# Altium footprint library SEC_3002_DZ&HL.PcbLib: 65 footprints (part 2 of 5)
Each footprint in its own frame and in the unit in brackets; x right, y up, seen from the top. Pads: shape width x height; smd on the part's side, far side on the other; paste and mask are expansions set on the pad; w line width, h text height; cw(c..) or ccw(c..) is an arc to the next point about the centre after c.
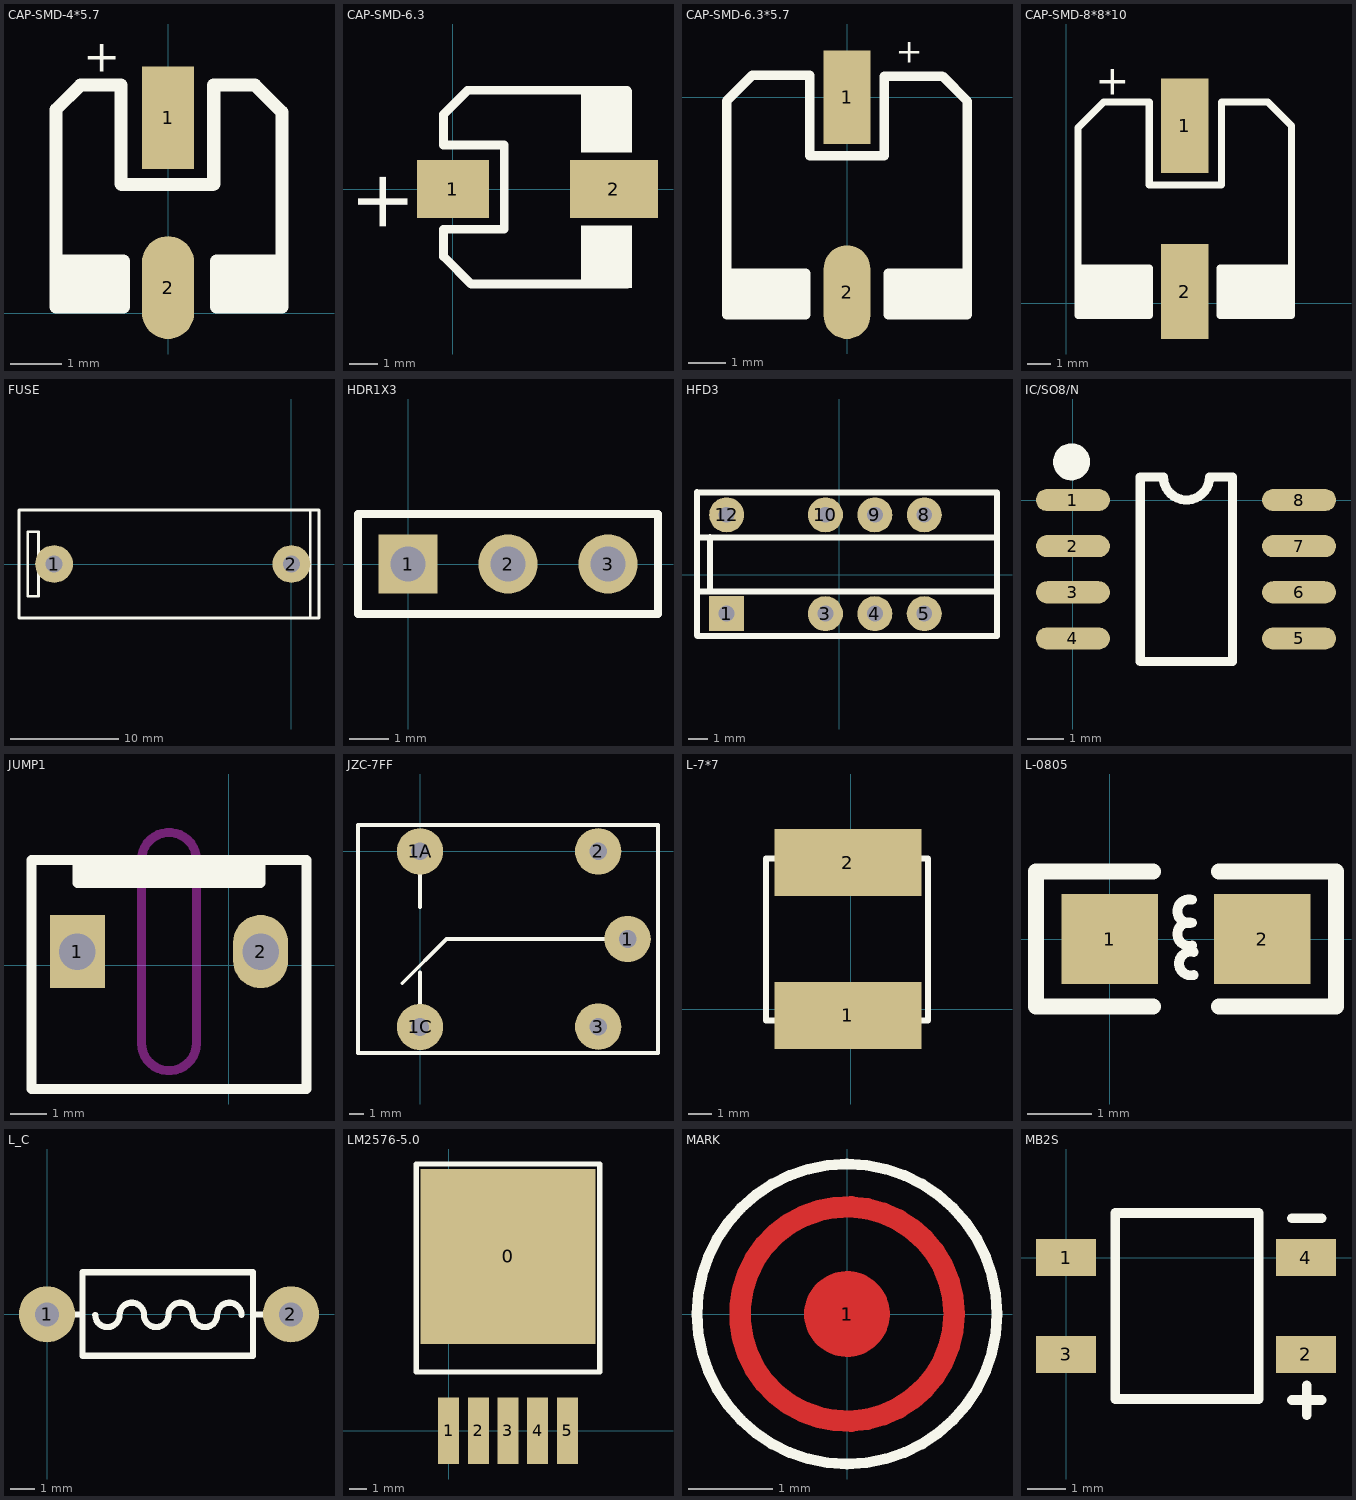
[diagram p1: the footprints below, top view; thin cyan lines are the x and y axes]

## CAP-SMD-4*5.7 [mm] "贴"
height 1.35
pads (2):
  rect 1.016x2 smd: 1(0,3.802)
  oval 1.016x2 smd: 2(0,0.5)
Top Overlay:
  rectangle: -2.178,0.134 -0.87,1.023
  rectangle: 0.945,0.127 2.216,1.016
  lines w0.254: -2.178,0.127 -2.178,3.962 -1.703,4.437 -0.914,4.437 -0.914,2.516 -0.9,2.502 0.878,2.502 0.889,2.513 0.889,4.437 1.69,4.437 2.216,3.911 2.216,0.127 ; -2.178,1.016 -0.902,1.016 ; -2.159,0.127 -0.87,0.127 -0.87,1.016 ; 2.195,0.127 0.946,0.127 0.946,1.016 2.195,1.016
  text "+" at -1.651,4.699 h0.64

## CAP-SMD-6.3 [mm]
pads (2):
  rect 2.5x2 smd: 1(0,0)
  rect 3.059x2 smd: 2(5.588,0)
Top Overlay:
  rectangle: 4.445,-3.429 6.223,-1.27
  rectangle: 4.445,1.27 6.223,3.429
  lines w0.305: 1.778,-1.397 -0.326,-1.397 -0.326,-2.341 0.635,-3.302 6.05,-3.302 ; 1.778,-1.341 1.778,1.524 -0.326,1.524 -0.326,2.595 0.508,3.429 6.05,3.429
  text "+" at -3.298,0.711 h2

## CAP-SMD-6.3*5.7 [mm] "贴"
height 1.35
pads (2):
  rect 1.25x2.5 smd: 1(0,0)
  oval 1.25x2.5 smd: 2(0,-5.2)
Top Overlay:
  rectangle: 1.097,-5.8 3.217,-4.698
  region: -1.097,-4.698 -3.217,-4.698 -3.217,-5.8 -1.097,-5.8
  lines w0.254: -3.216,-4.698 -1.097,-4.698 -1.097,-5.8 -3.217,-5.8 -3.217,-0.095 -2.527,0.595 -0.999,0.595 -0.999,-1.554 ; -0.999,-1.56 0.994,-1.56 0.999,-1.554 0.999,0.567 2.548,0.567 3.217,-0.101 3.217,-5.8 1.097,-5.8 1.097,-4.698 3.216,-4.698
  text "+" at 1.307,0.925 h0.64

## CAP-SMD-8*8*10 [mm]
height 1.35
pads (2):
  rect 2x4 smd: 1(5,7.5) 2(5,0.5)
Top Overlay:
  rectangle: 6.489,-0.504 9.606,1.401
  rectangle: 0.587,-0.5 3.5,1.405
  lines w0.305: 0.5,1.5 3.5,1.5 3.5,-0.5 0.5,-0.5 0.5,7.413 1.587,8.5 3.5,8.5 3.5,5 6.548,5 6.548,8.5 8.5,8.5 9.5,7.5 9.5,-0.5 6.548,-0.5 ; 6.5,-0.5 6.5,1.5 9.5,1.5
  text "+" at 2.671,9.888 h1.27

## FUSE [mm]
pads (2):
  round 3.5 hole 1.6: 1(-22,0) 2(0,0)
Top Overlay:
  lines w0.254: 1.753,-5 -24.453,-5 -25.253,-5 -25.253,5 -24.453,5 1.753,5 ; 1.753,-5 1.753,5 ; 1.753,-5 2.553,-5 2.553,5 1.753,5 ; -24.453,-3 -24.453,3 -23.453,3 -23.453,-3 -24.453,-3

## HDR1X3 [mm] "Connector; Header; 3 Position"
pads (3):
  rect 1.5x1.5 hole 0.9: 1(0,0)
  round 1.5 hole 0.9: 2(2.54,0) 3(5.08,0)
Top Overlay:
  lines w0.2: -1.27,-1.27 -1.27,1.27 6.35,1.27 6.35,-1.27 -1.27,-1.27

## HFD3 [mil]
height 53.15
pads (8):
  rect 71x71 hole 32: 1(-228,-79)
  round 71 hole 32: 3(-28,-79) 4(72,-79) 5(172,-79) 9(72,121) 10(-28,121) 12(-228,121)
  round 70.87 hole 32: 8(172,121)
Top Overlay:
  lines w12: -288,-123 -288,167 ; -288,166.24 192.52,166.24 319.24,166.24 ; -287,-124 203,-124 319,-124 319,166 ; -286,-34 204,-34 319,-34 ; -285,75 204,75 ; -262,-34 -262,76 ; 202,75 317,75

## IC/SO8/N [mil]
pads (8):
  oval 80x24 smd: 1(0,0) 2(0,-50) 3(0,-100) 4(0,-150) 5(245,-150) 6(245,-100) 7(245,-50) 8(245,0)
Top Overlay:
  circle w20: c-1.58,41.36 r10
  lines w10: 73,-175 173,-175 173,25 148,25 cw(c123,25) 98,25 73,25 73,-175

## JUMP1 [mil]
pads (2):
  rect 60x80 hole 40: 1(-165,15)
  oval 60x80 hole 40: 2(35,15)
Top Overlay:
  region: -160,110 -160,85 30,85 30,110
  lines w11: -165,115 -165,90 35,90 35,115 ; -215,-135 -215,115 85,115 85,-135 -215,-135
Keep-Out Layer:
  lines w10: -95,-85 ccw(c-65,-85) -35,-85 -35,115 ccw(c-65,115) -95,115 -95,-85

## JZC-7FF [mil]
height 53.15
pads (5):
  round 125 hole 47.24: 1(559,-236) 1A(0,0) 1C(0,-473) 2(480,0) 3(480,-472)
Top Overlay:
  lines w10: -48,-355 71,-236 560,-236 ; 0,-476 0,-326 ; 0,-150 0,1
  lines w12: -167,-543 -167,71 641,71 641,-543 -167,-543

## L-7*7 [mil]
height 53.15
pads (2):
  rect 250x113.62 smd: 1(-5.03,-10.2) 2(-5.03,249.8)
Top Overlay:
  lines w10: -144.45,-18.81 -144.45,256.78 131.14,256.78 131.14,-18.81 -144.45,-18.81

## L-0805 [mm]
pads (2):
  rect 1.5x1.4 smd: 1(0,0) 2(2.376,0)
Top Overlay:
  lines w0.152: 1.285,-0.102 cw(c1.238,0.076) 1.285,0.254 cw(c1.238,0.432) 1.284,0.61 ; 1.31,-0.559 cw(c1.263,-0.381) 1.31,-0.203
  lines w0.25: 0.675,-1.05 -1.143,-1.05 -1.143,1.05 0.675,1.05 ; 1.701,-1.05 3.519,-1.05 3.519,1.05 1.701,1.05

## L_C [mil]
pads (2):
  round 92 hole 39.37: 1(0,0) 2(400,0)
Top Overlay:
  lines w10: 0,0 58,0 ; 79,-1 ccw(c99,-1) 119,-1 cw(c139,-1) 159,-1 ccw(c179,-1) 199,-1 cw(c219,-1) 239,-1 ccw(c259,-1) 279,-1 cw(c299,-1) 319,-1 ; 338,0 400,0 ; 58,-68 58,69 338,69 338,-68 58,-68

## LM2576-5.0 [mm]
pads (6):
  rect 10x10 smd: 0(3.4,9.954)
  rect 1.2x3.81 smd: 1(0,0) 2(1.7,0) 3(3.4,0) 4(5.1,0) 5(6.8,0)
Top Overlay:
  lines w0.305: -1.84,3.354 8.64,3.354 8.64,15.24 -1.84,15.24 -1.84,3.354

## MARK [mil]
height 53.15
pads (2):
  round 108.27 on Top Solder: 1(0,0)
  round 40 on Top Paste: 1(0,0)
Top Layer:
  circle w10: c0,0 r50
  circle w20: c0,0 r10
Top Overlay:
  circle w5: c0,0 r70
Top Solder:
  circle w24: c0,0 r12

## MB2S [mm]
pads (4):
  rect 1.554x0.954 smd: 1(0,0) 2(6.2,-2.5) 3(0,-2.5) 4(6.2,0)
Top Overlay:
  lines w0.254: 1.27,-3.65 1.27,1.15 4.978,1.15 4.978,-3.65 1.295,-3.65 ; 5.842,-3.683 6.604,-3.683 ; 5.842,1.016 6.604,1.016 ; 6.223,-4.064 6.223,-3.302